# EAGLE library part Q_IRS21851STR (library MRDT-2014-All)
4A 600V 130ns High Side Driver
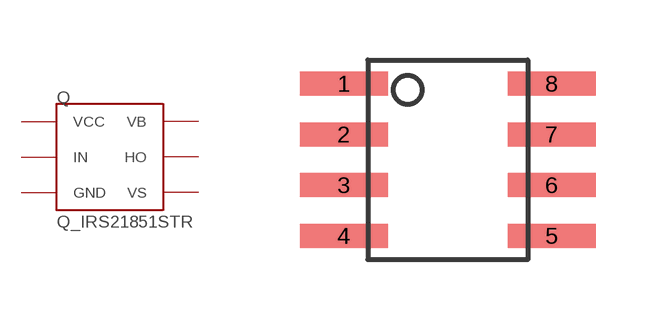
[diagram p18: symbol with the pads of SOIC8; footprint SOIC8]

Designator prefix Q

## Q_IRS21851STR  [SOIC8]
1  VCC
2  IN
4  GND
6  VS
7  HO
8  VB

## Footprint SOIC8 (pad centres in mm)
smd 2.2 x 0.6: 1 -2.6,1.905; 2 -2.6,0.635; 3 -2.6,-0.635; 4 -2.6,-1.905; 5 2.6,-1.905; 6 2.6,-0.635; 7 2.6,0.635; 8 2.6,1.905